# Altium footprint library JST.PcbLib: 2 footprints
Each footprint in its own frame and in the unit in brackets; x right, y up, seen from the top. Pads: shape width x height; smd on the part's side, far side on the other; paste and mask are expansions set on the pad; w line width, h text height; cw(c..) or ccw(c..) is an arc to the next point about the centre after c.
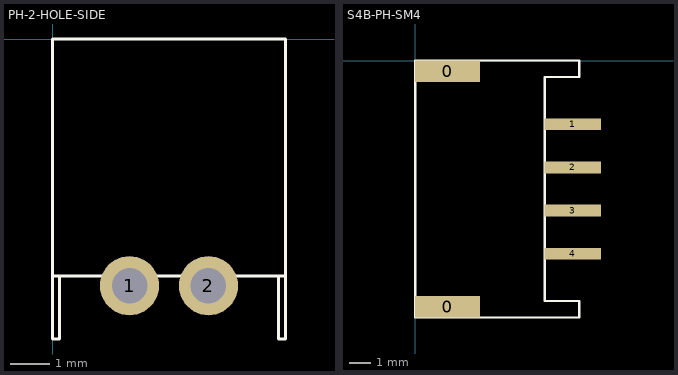
[diagram p0: the footprints below, top view; thin cyan lines are the x and y axes]

## PH-2-HOLE-SIDE [mm]
pads (2):
  round 1.5 hole 0.9: 1(1.95,-6.25) 2(3.95,-6.25)
Top Overlay:
  lines w0.08: 0.18,-6.03 0.18,-7.6 0,-7.6 0,-6 ; 5.72,-6.02 5.72,-7.6 5.9,-7.6 5.9,-6 ; 0,-6 0,0 5.9,0 5.9,-6 ; 0,-6 5.9,-6

## S4B-PH-SM4 [mm]
pads (6):
  rect 3x1 smd: 0(1.5,-11.4) 0(1.5,-0.5)
  rect 2.6x0.55 smd: 1(7.3,-2.95) 2(7.3,-4.95) 3(7.3,-6.95) 4(7.3,-8.95)
Top Overlay:
  lines w0.1: 0,-11.9 0,0 6,0 7.6,0 7.6,-0.76 6,-0.76 6,-11.14 7.6,-11.14 7.6,-11.9 6,-11.9 0,-11.9